# Altium integrated library FH12-40S-0.5SH_55_.IntLib: 1 symbol
Pins are listed as number, name and electrical type; pins without a type are passive.

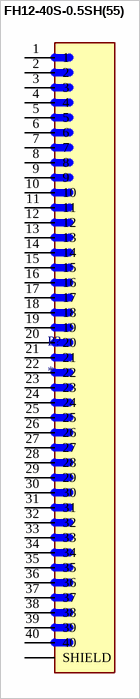
[diagram p0: symbol FH12-40S-0.5SH(55)]

## FH12-40S-0.5SH(55)
designator P?
40 Position FFC, FPC Connector Contacts, Bottom 0.020 (0.50mm) Surface Mount, Right Angle; MF: Hirose; MP: FH12-40S-0.5SH(55); Value: *; SnapEDA_Link: https://www.snapeda.com/parts/FH12-40S-0.5SH(55)/Hirose+Electric+Co+Ltd/view-part/?ref=snap; Purchase-URL: https://pricing.snapeda.com/search/part/FH12-40S-0.5SH(55)/?ref=eda; Availability: In Stock; Price: None; Package: None; Check_prices: https://www.snapeda.com/parts/FH12-40S-0.5SH(55)/Hirose+Electric+Co+Ltd/view-part/?ref=eda
footprint HRS_FH12-40S-0.5SH(55)
pins: 1, 2, 3, 4, 5, 6, 7, 8, 9, 10, 11, 12, 13, 14, 15, 16, 17, 18, 19, 20, 21, 22, 23, 24, 25, 26, 27, 28, 29, 30, 31, 32, 33, 34, 35, 36, 37, 38, 39, 40, P1 SHIELD, P2 SHIELD